# EAGLE library part BD33FC0WEFJ-E2 (library BD33FC0WEFJ-E2)
ROHM BD33FC0WEFJ-E2, LDO Regulator, 1A Adjustable, 1 15 V, +/-1%, HTSOP-J 8-Pin Source: Datasheet <http://rohmfs.rohm.com/en/products/databook/datasheet/ic/power/linear_regulator/bdxxfc0wefj-e.pdf>
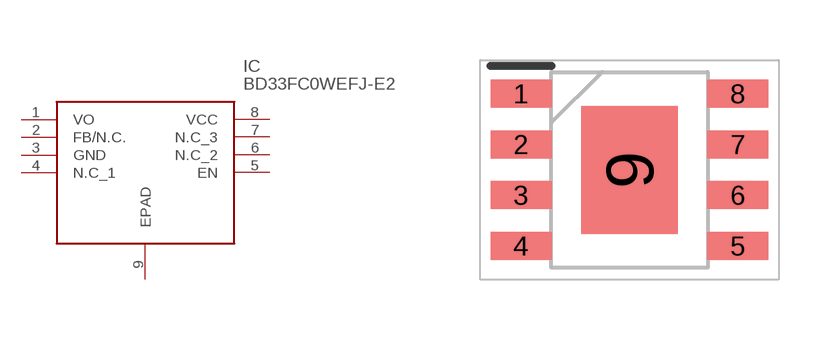
[diagram p0: symbol with the pads of SOIC127P600X100-9N; footprint SOIC127P600X100-9N]

Designator prefix IC

## BD33FC0WEFJ-E2 (Description: ROHM BD33FC0WEFJ-E2, LDO Regulator, 1A Adjustable, 1 15 V, +/-1%, HTSOP-J 8-Pin; Height: 1mm; Manufacturer_Name: ROHM Semiconductor; Manufacturer_Part_Number: BD33FC0WEFJ-E2; Mouser_Part_Number: 755-BD33FC0WEFJ-E2; Mouser_Price-Stock: https://www.mouser.com/Search/Refine.aspx?Keyword=755-BD33FC0WEFJ-E2)  [SOIC127P600X100-9N]
1  VO
2  FB/N.C.
3  GND
4  N.C_1
5  EN
6  N.C_2
7  N.C_3
8  VCC
9  EPAD

## Footprint SOIC127P600X100-9N (pad centres in mm)
HTSOP-J8-2
smd 1.525 x 0.7: 1 -2.712,1.905; 2 -2.712,0.635; 3 -2.712,-0.635; 4 -2.712,-1.905; 5 2.712,-1.905; 6 2.712,-0.635; 7 2.712,0.635; 8 2.712,1.905
smd 2.4 x 3.2: 9 0,0